# Altium footprint library Horizontal, Flange Mount with Tab.PcbLib: 3 footprints
Each footprint in its own frame and in the unit in brackets; x right, y up, seen from the top. Pads: shape width x height; smd on the part's side, far side on the other; paste and mask are expansions set on the pad; w line width, h text height; cw(c..) or ccw(c..) is an arc to the next point about the centre after c.
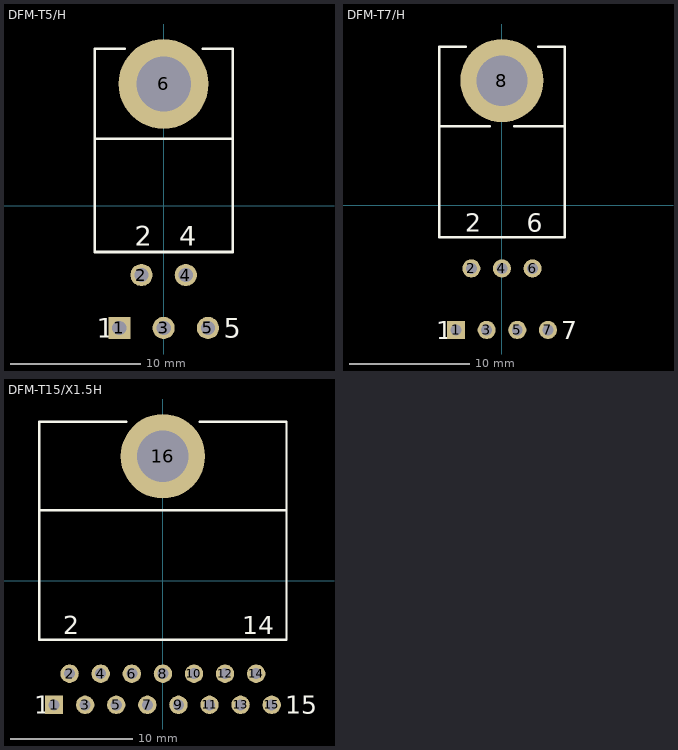
[diagram p0: the footprints below, top view; thin cyan lines are the x and y axes]

## DFM-T5/H [mm] "TO, Thru-Hole, Horizontal, Heatsink Mounted; 5 Bent Staggered Leads; Pitch 1.7 mm"
height 4.6
pads (6):
  rect 1.7x1.7 hole 1.1: 1(-3.4,-9.365)
  round 1.7 hole 1.1: 2(-1.7,-5.305) 3(0,-9.365) 4(1.7,-5.305) 5(3.4,-9.365)
  round 6.9 hole 4.2: 6(0,9.365)
Top Overlay:
  lines w0.2: -5.3,5.165 5.3,5.165 ; -3,12.065 -5.3,12.065 -5.3,-3.535 5.3,-3.535 5.3,12.065 3,12.065
  text "1" at -5.125,-10.115 h1.5
  text "5" at 4.625,-10.115 h1.5
  text "4" at 1.2,-3.06 h1.5
  text "2" at -2.2,-3.06 h1.5

## DFM-T7/H [mm] "TO, Thru-Hole, Horizontal, Heatsink Mounted; 7 Bent Staggered Leads; Pitch 1.27 mm"
height 4.8
pads (8):
  rect 1.5x1.5 hole 0.9: 1(-3.81,-10.34)
  round 1.5 hole 0.9: 2(-2.54,-5.24) 3(-1.27,-10.34) 4(0,-5.24) 5(1.27,-10.34) 6(2.54,-5.24) 7(3.81,-10.34)
  round 6.9 hole 4.2: 8(0,10.34)
Top Overlay:
  lines w0.2: -5.2,6.54 -1,6.54 ; -3,13.14 -5.2,13.14 -5.2,-2.66 5.2,-2.66 5.2,13.14 3,13.14 ; 1,6.54 5.2,6.54
  text "2" at -3.04,-2.185 h1.5
  text "6" at 2.04,-2.185 h1.5
  text "7" at 4.935,-11.09 h1.5
  text "1" at -5.435,-11.09 h1.5

## DFM-T15/X1.5H [mm] "TO, Thru-Hole, Horizontal, Heatsink Mounted; 15 Bent Staggered Leads; Pitch 1.27 mm"
height 5
pads (16):
  rect 1.5x1.5 hole 0.9: 1(-8.89,-10.155)
  round 1.5 hole 0.9: 2(-7.62,-7.615) 3(-6.35,-10.155) 4(-5.08,-7.615) 5(-3.81,-10.155) 6(-2.54,-7.615) 7(-1.27,-10.155) 8(0,-7.615) 9(1.27,-10.155) 10(2.54,-7.615) 11(3.81,-10.155) 12(5.08,-7.615) 13(6.35,-10.155) 14(7.62,-7.615) 15(8.89,-10.155)
  round 6.9 hole 4.2: 16(0,10.155)
Top Overlay:
  lines w0.2: -10.1,5.755 10.1,5.755 ; -3,12.955 -10.1,12.955 -10.1,-4.845 10.1,-4.845 10.1,12.955 3,12.955
  text "1" at -10.515,-10.905 h1.5
  text "15" at 10.015,-10.905 h1.5
  text "14" at 6.495,-4.37 h1.5
  text "2" at -8.12,-4.37 h1.5